# EAGLE library part CY7C63001C-?XC* (library cypress)
Universal Serial Bus Microcontroller Integrated USB transceiver Source: www.cypress.com .. CY7C6301XX.pdf
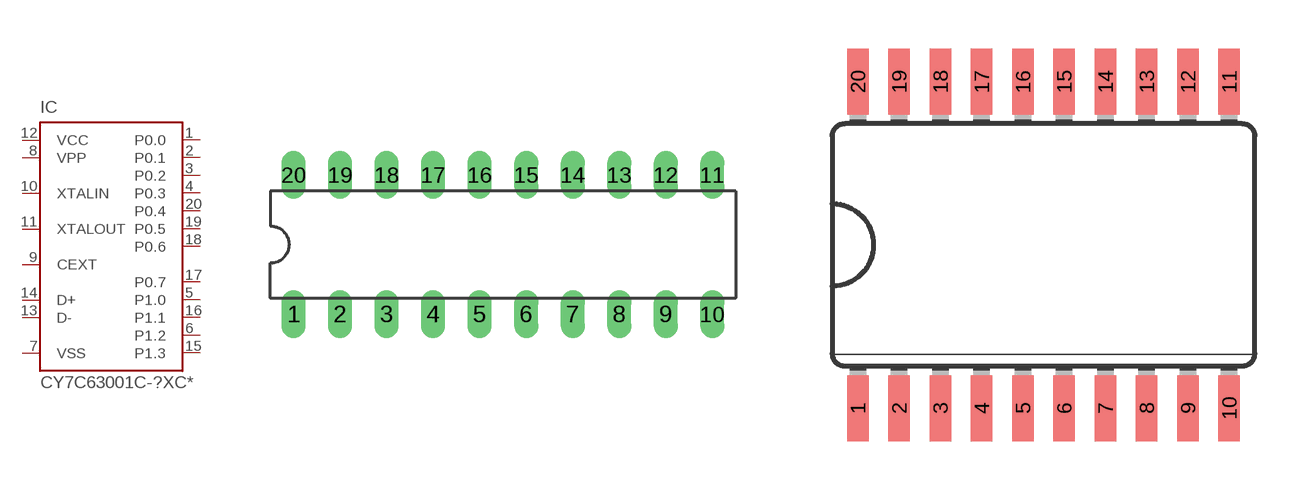
[diagram p6: symbol with the pads of DIL20; footprints DIL20, SO20L]

Designator prefix IC

## CY7C63001C-PXC (MPN: CY7C63001C-PXC; OC_FARNELL: unknown; OC_NEWARK: 19M7032)  [DIL20]
1  P0.0
2  P0.1
3  P0.2
4  P0.3
5  P1.0
6  P1.2
7  VSS  pwr
8  VPP  in
9  CEXT  pas
10  XTALIN  in
11  XTALOUT  out
12  VCC  pwr
13  D-
14  D+
15  P1.3
16  P1.1
17  P0.7
18  P0.6
19  P0.5
20  P0.4

## CY7C63001C-SXC (MPN: CY7C63001C-SXC; OC_FARNELL: 1769872; OC_NEWARK: 19M7033), CY7C63001C-SXCT (MPN: CY7C63001C-SXCT; OC_FARNELL: unknown; OC_NEWARK: 19M7034)  [SO20L]
Pads as for DIL20

## Footprint DIL20 (pad centres in mm)
Dual In Line Package
drill 0.813 long: 1 -11.43,-3.81; 2 -8.89,-3.81; 3 -6.35,-3.81; 4 -3.81,-3.81; 5 -1.27,-3.81; 6 1.27,-3.81; 7 3.81,-3.81; 8 6.35,-3.81; 9 8.89,-3.81; 10 11.43,-3.81; 11 11.43,3.81; 12 8.89,3.81; 13 6.35,3.81; 14 3.81,3.81; 15 1.27,3.81; 16 -1.27,3.81; 17 -3.81,3.81; 18 -6.35,3.81; 19 -8.89,3.81; 20 -11.43,3.81

## Footprint SO20L (pad centres in mm)
20-Lead (300-MIL) SOIC S5 Source: www.cypress.com .. CY7C6301XX.pdf
smd 0.66 x 2.032: 1 -5.715,-5.029; 2 -4.445,-5.029; 3 -3.175,-5.029; 4 -1.905,-5.029; 5 -0.635,-5.029; 6 0.635,-5.029; 7 1.905,-5.029; 8 3.175,-5.029; 9 4.445,-5.029; 10 5.715,-5.029; 11 5.715,5.029; 12 4.445,5.029; 13 3.175,5.029; 14 1.905,5.029; 15 0.635,5.029; 16 -0.635,5.029; 17 -1.905,5.029; 18 -3.175,5.029; 19 -4.445,5.029; 20 -5.715,5.029